# EAGLE library part BSS138DW (library sonder_b)
BSS138DW DUAL N-CHANNEL ENHANCEMENT MODE FIELD EFFECT TRANSISTOR SOT-363 Package
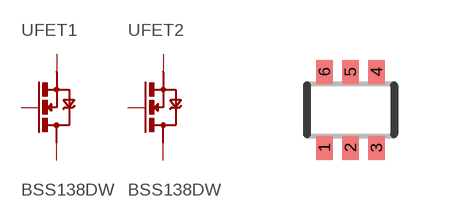
[diagram p3: symbol with the pads of SOT-363; footprint SOT-363]

Designator prefix -; gates FET2=BSS138 FET1=BSS138

## BSS138DW  [SOT-363]
1  FET2:S
2  FET2:G
3  FET1:D
4  FET1:S
5  FET1:G
6  FET2:D

## Footprint SOT-363 (pad centres in mm)
SOT 6pin 3+3pins
smd 0.42 x 0.6: 1 -0.65,-0.95; 2 0,-0.95; 3 0.65,-0.95; 4 0.65,0.95; 5 0,0.95; 6 -0.65,0.95